# Altium schematic symbol library ESP8266.SCHLIB: 11 symbols
Pins are listed as number, name and electrical type; pins without a type are passive.

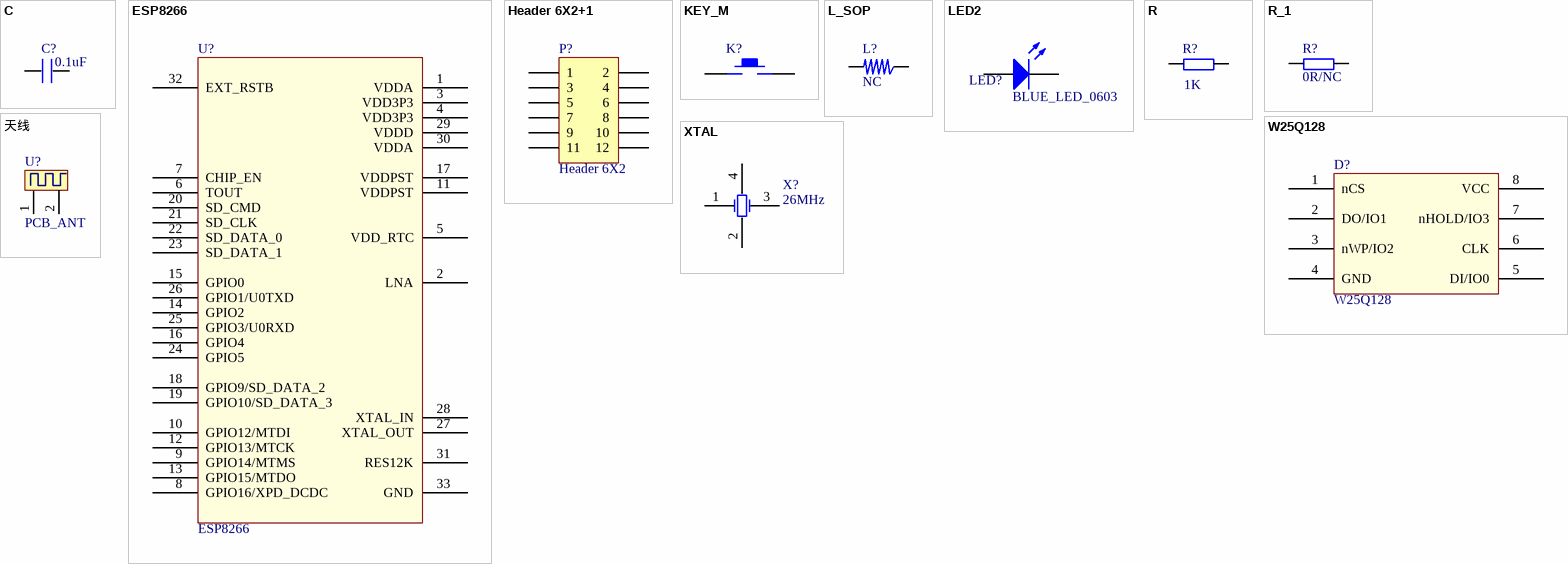
[diagram p0: symbols C to 天线]

## C
designator C?, comment 0.1uF
footprint 0603P
footprint 0805
footprint CC5.08 (CAP0.1)
footprint CC4.572 (222/332)
footprint 1206
footprint 1210
footprint CC6.096
footprint CC7.62
footprint 0603R
footprint 0603C
footprint 0402C
pins: 1, 2

## ESP8266
designator U?
footprint QFN8266 (QFN, 32-Leads, Body 5.1x5.1mm (max), Pitch 0.50mm, IPC Medium Density)
pins: 1 VDDA, 2 LNA, 3 VDD3P3, 4 VDD3P3, 5 VDD_RTC, 6 TOUT, 7 CHIP_EN, 8 GPIO16/XPD_DCDC, 9 GPIO14/MTMS, 10 GPIO12/MTDI, 11 VDDPST, 12 GPIO13/MTCK, 13 GPIO15/MTDO, 14 GPIO2, 15 GPIO0, 16 GPIO4, 17 VDDPST, 18 GPIO9/SD_DATA_2, 19 GPIO10/SD_DATA_3, 20 SD_CMD, 21 SD_CLK, 22 SD_DATA_0, 23 SD_DATA_1, 24 GPIO5, 25 GPIO3/U0RXD, 26 GPIO1/U0TXD, 27 XTAL_OUT, 28 XTAL_IN, 29 VDDD, 30 VDDA, 31 RES12K, 32 EXT_RSTB, 33 GND

## Header 6X2+1
designator P?, comment Header 6X2
Header, 6-Pin, Dual row; LatestRevisionDate: 17-Jul-2002; LatestRevisionNote: Re-released for DXP Platform.; Publisher: Altium Limited
footprint HDR6X2 (Connector; Header; 7x2 Position)
pins: 1, 2, 3, 4, 5, 6, 7, 8, 9, 10, 11, 12

## KEY_M
designator K?, comment ES/RESET  (value not drawn)
footprint KEY_M (KEY_MID)
footprint KEY_2 (KEY?)
footprint KEY_SOP_BG (KEY?)
pins: 1, 2

## L_SOP
designator L?, comment NC
footprint 0402L-C
pins: 1, 2

## LED2
designator LED?, comment BLUE_LED_0603
Typical RED, GREEN, YELLOW, AMBER GaAs LED; Published: 8-Jun-2000; LatestRevisionDate: 17-Jul-2002; LatestRevisionNote: Re-released for DXP Platform.; PackageDocument: Feb-2002; PackageReference: 3.2X1.6X1.1; Publisher: Altium Limited
footprint SMDLED
simulation model LED2 (Diode)
pins: 1 A, 2 K

## R
designator R?, comment 1K
footprint 0805
footprint 0603P
footprint RL (10o/0.7uH)
footprint R16.0 (RX/1W)
footprint 1206
footprint 1210
footprint R20.0 (RX/2W)
footprint R10.16 (STD)
footprint RLN9 (13.5mm*5.1mm)
footprint 0603R
footprint 0603C
footprint 0402R
pins: 1, 2

## R_1
designator R?, comment 0R/NC
footprint 1210
footprint R20.0 (RX/2W)
footprint R10.16 (STD)
footprint RLN9 (13.5mm*5.1mm)
footprint 0603R
footprint 0603C
footprint 0402R
pins: 1, 2

## W25Q128
designator D?
footprint W25Q128-1 (SPI_FLASH)
pins: 1 nCS, 2 DO/IO1, 3 nWP/IO2, 4 GND, 5 DI/IO0, 6 CLK, 7 nHOLD/IO3, 8 VCC

## XTAL
designator X?, comment 26MHz
24M无源晶振（10ppm）; Published: 8-Jun-2000; LatestRevisionDate: 17-Jul-2002; LatestRevisionNote: Re-released for DXP Platform.; PackageReference: R38; Publisher: Altium Limited
footprint CY_3225
simulation model XTAL (Spice Subcircuit)
pins: 1 OSC1, 2 OSC2, 3 OSC2, 4 OSC2

## 天线
designator U?, comment PCB_ANT
footprint BLE-ANT4
pins: 1, 2